# EAGLE library part AS-ITM-00143 (library tinycircuits)
IC 3-Axis MEMS Gyro
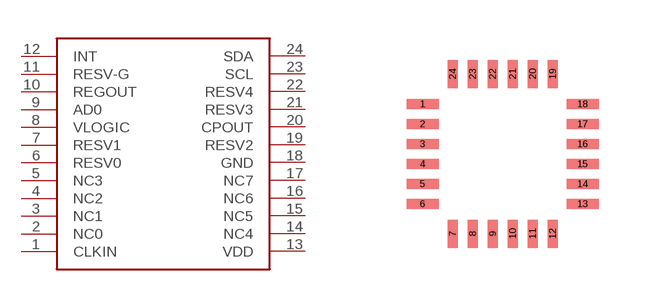
[diagram p65: symbol with the pads of ITG3200; footprint ITG3200]

Designator prefix -

## AS-ITM-00143  [ITG3200]
1  CLKIN
2  NC0
3  NC1
4  NC2
5  NC3
6  RESV0
7  RESV1
8  VLOGIC
9  AD0
10  REGOUT
11  RESV-G
12  INT
13  VDD
14  NC4
15  NC5
16  NC6
17  NC7
18  GND
19  RESV2
20  CPOUT
21  RESV3
22  RESV4
23  SCL
24  SDA

## Footprint ITG3200 (pad centres in mm)
smd 0.8 x 0.25: 1 -2,1.25; 2 -2,0.75; 3 -2,0.25; 4 -2,-0.25; 5 -2,-0.75; 6 -2,-1.25; 13 2,-1.25; 14 2,-0.75; 15 2,-0.25; 16 2,0.25; 17 2,0.75; 18 2,1.25
smd 0.25 x 0.7: 7 -1.25,-2; 8 -0.75,-2; 9 -0.25,-2; 10 0.25,-2; 11 0.75,-2; 12 1.25,-2; 19 1.25,2; 20 0.75,2; 21 0.25,2; 22 -0.25,2; 23 -0.75,2; 24 -1.25,2